# Altium footprint library tfp401a.PcbLib: 3 footprints
Each footprint in its own frame and in the unit in brackets; x right, y up, seen from the top. Pads: shape width x height; smd on the part's side, far side on the other; paste and mask are expansions set on the pad; w line width, h text height; cw(c..) or ccw(c..) is an arc to the next point about the centre after c.
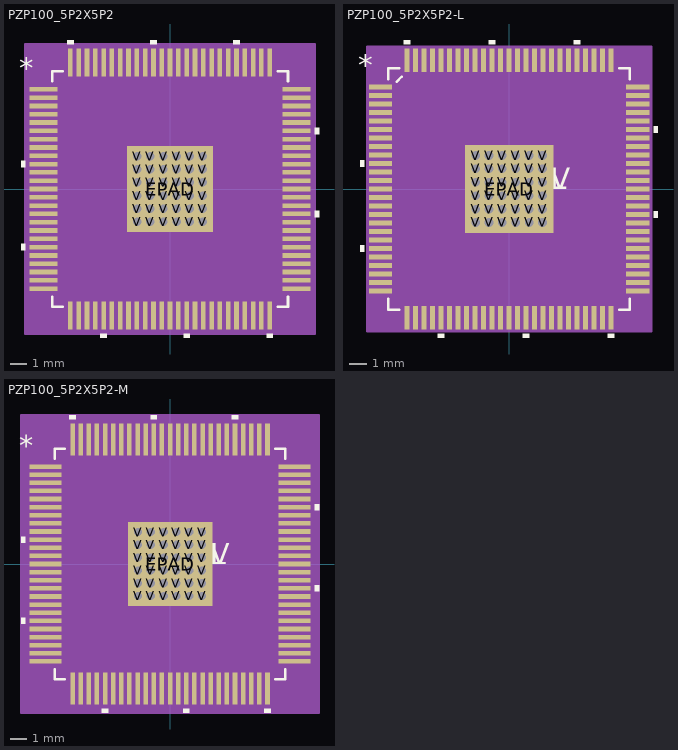
[diagram p0: the footprints below, top view; thin cyan lines are the x and y axes]

## PZP100_5P2X5P2 [mil]
pads (137):
  rect 66x11 smd: 1(-300,236.22) 2(-300,216.54) 3(-300,196.85) 4(-300,177.17) 5(-300,157.48) 6(-300,137.8) 7(-300,118.11) 8(-300,98.43) 9(-300,78.74) 10(-300,59.06) 11(-300,39.37) 12(-300,19.69) 13(-300,0) 14(-300,-19.68) 15(-300,-39.37) 16(-300,-59.06) 17(-300,-78.74) 18(-300,-98.43) 19(-300,-118.11) 20(-300,-137.8) 21(-300,-157.48) 22(-300,-177.17) 23(-300,-196.85) 24(-300,-216.54) 25(-300,-236.22) 51(300,-236.22) 52(300,-216.54) 53(300,-196.85) 54(300,-177.17) 55(300,-157.48) 56(300,-137.8) 57(300,-118.11) 58(300,-98.43) 59(300,-78.74) 60(300,-59.06) 61(300,-39.37) 62(300,-19.68) 63(300,0) 64(300,19.68) 65(300,39.37) 66(300,59.06) 67(300,78.74) 68(300,98.43) 69(300,118.11) 70(300,137.8) 71(300,157.48) 72(300,177.17) 73(300,196.85) 74(300,216.54) 75(300,236.22)
  rect 11x66 smd: 26(-236.22,-300) 27(-216.54,-300) 28(-196.85,-300) 29(-177.17,-300) 30(-157.48,-300) 31(-137.8,-300) 32(-118.11,-300) 33(-98.43,-300) 34(-78.74,-300) 35(-59.06,-300) 36(-39.37,-300) 37(-19.68,-300) 38(0,-300) 39(19.68,-300) 40(39.37,-300) 41(59.06,-300) 42(78.74,-300) 43(98.43,-300) 44(118.11,-300) 45(137.8,-300) 46(157.48,-300) 47(177.17,-300) 48(196.85,-300) 49(216.54,-300) 50(236.22,-300) 76(236.22,300) 77(216.54,300) 78(196.85,300) 79(177.17,300) 80(157.48,300) 81(137.8,300) 82(118.11,300) 83(98.43,300) 84(78.74,300) 85(59.06,300) 86(39.37,300) 87(19.68,300) 88(0,300) 89(-19.68,300) 90(-39.37,300) 91(-59.06,300) 92(-78.74,300) 93(-98.43,300) 94(-118.11,300) 95(-137.8,300) 96(-157.48,300) 97(-177.17,300) 98(-196.85,300) 99(-216.54,300) 100(-236.22,300)
  rect 204.72x204.72 smd paste-101.86 mask-102: EPAD(0,0)
  round 40 / inner round 60 / far side round 40 hole 20: V(-77.5,-77.5) V(-77.5,-46.5) V(-77.5,-15.5) V(-77.5,15.5) V(-77.5,46.5) V(-77.5,77.5) V(-46.5,-77.5) V(-46.5,-46.5) V(-46.5,-15.5) V(-46.5,15.5) V(-46.5,46.5) V(-46.5,77.5) V(-15.5,-77.5) V(-15.5,-46.5) V(-15.5,-15.5) V(-15.5,15.5) V(-15.5,46.5) V(-15.5,77.5) V(15.5,-77.5) V(15.5,-46.5) V(15.5,-15.5) V(15.5,15.5) V(15.5,46.5) V(15.5,77.5) V(46.5,-77.5) V(46.5,-46.5) V(46.5,-15.5) V(46.5,15.5) V(46.5,46.5) V(46.5,77.5) V(77.5,-77.5) V(77.5,-46.5) V(77.5,-15.5) V(77.5,15.5) V(77.5,46.5) V(77.5,77.5)
Top Overlay:
  region: -228.72,343 -243.72,343 -243.72,353 -228.72,353
  region: -31.87,343 -46.87,343 -46.87,353 -31.87,353
  region: 164.98,343 149.98,343 149.98,353 164.98,353
  region: 343,145.3 353,145.3 353,130.3 343,130.3
  region: 343,-51.56 353,-51.56 353,-66.56 343,-66.56
  region: 243.72,-343 228.72,-343 228.72,-353 243.72,-353
  region: 46.87,-343 31.87,-343 31.87,-353 46.87,-353
  region: -149.98,-343 -164.98,-343 -164.98,-353 -149.98,-353
  region: -343,-130.3 -353,-130.3 -353,-145.3 -343,-145.3
  region: -343,66.56 -353,66.56 -353,51.56 -343,51.56
  lines w6: -279.5,-254.82 -279.5,-279.5 -254.82,-279.5 ; -279.5,254.82 -279.5,279.5 -254.82,279.5 ; 254.82,-279.5 279.5,-279.5 279.5,-254.82 ; 254.82,279.5 279.5,279.5 279.5,254.82
  text "PN" at 0,0 h50
  text "*" at -358,261.06 h50
Top Paste:
  drawing of 49 lines, arcs and shapes, not listed
Top Solder:
  region: 85.37,-104.86 85.37,104.86 104.86,104.86 104.86,-104.86
  region: 69.63,-104.86 69.63,104.86 54.37,104.86 54.37,-104.86
  region: 38.63,-104.86 38.63,104.86 23.37,104.86 23.37,-104.86
  region: 7.63,-104.86 7.63,104.86 -7.63,104.86 -7.63,-104.86
  region: -23.37,-104.86 -23.37,104.86 -38.63,104.86 -38.63,-104.86
  region: -54.37,-104.86 -54.37,104.86 -69.63,104.86 -69.63,-104.86
  region: -104.86,-104.86 -104.86,104.86 -85.37,104.86 -85.37,-104.86
  region: -104.86,-104.86 -104.86,-85.37 104.86,-85.37 104.86,-104.86
  region: -104.86,-69.63 -104.86,-54.37 104.86,-54.37 104.86,-69.63
  region: -104.86,-38.63 -104.86,-23.37 104.86,-23.37 104.86,-38.63
  region: -104.86,-7.63 -104.86,7.63 104.86,7.63 104.86,-7.63
  region: -104.86,23.37 -104.86,38.63 104.86,38.63 104.86,23.37
  region: -104.86,54.37 -104.86,69.63 104.86,69.63 104.86,54.37
  region: -104.86,85.37 -104.86,104.86 104.86,104.86 104.86,85.37
Mechanical 13:
  text "*" at -358,261.06 h50
Mechanical 15:
  region: 343,-343 -343,-343 -343,343 343,343
  lines w6: -343,-343 343,-343 343,343 -343,343 -343,-343
3D body "PZP100_5P2X5P2.stp": height 47.1, standoff 0, extent -319,-319 319,319

## PZP100_5P2X5P2-L [mil]
pads (137):
  rect 54x11 smd: 1(-298,236.22) 2(-298,216.54) 3(-298,196.85) 4(-298,177.17) 5(-298,157.48) 6(-298,137.8) 7(-298,118.11) 8(-298,98.43) 9(-298,78.74) 10(-298,59.06) 11(-298,39.37) 12(-298,19.69) 13(-298,0) 14(-298,-19.68) 15(-298,-39.37) 16(-298,-59.06) 17(-298,-78.74) 18(-298,-98.43) 19(-298,-118.11) 20(-298,-137.8) 21(-298,-157.48) 22(-298,-177.17) 23(-298,-196.85) 24(-298,-216.54) 25(-298,-236.22) 51(298,-236.22) 52(298,-216.54) 53(298,-196.85) 54(298,-177.17) 55(298,-157.48) 56(298,-137.8) 57(298,-118.11) 58(298,-98.43) 59(298,-78.74) 60(298,-59.06) 61(298,-39.37) 62(298,-19.68) 63(298,0) 64(298,19.68) 65(298,39.37) 66(298,59.06) 67(298,78.74) 68(298,98.43) 69(298,118.11) 70(298,137.8) 71(298,157.48) 72(298,177.17) 73(298,196.85) 74(298,216.54) 75(298,236.22)
  rect 11x54 smd: 26(-236.22,-298) 27(-216.54,-298) 28(-196.85,-298) 29(-177.17,-298) 30(-157.48,-298) 31(-137.8,-298) 32(-118.11,-298) 33(-98.43,-298) 34(-78.74,-298) 35(-59.06,-298) 36(-39.37,-298) 37(-19.68,-298) 38(0,-298) 39(19.68,-298) 40(39.37,-298) 41(59.06,-298) 42(78.74,-298) 43(98.43,-298) 44(118.11,-298) 45(137.8,-298) 46(157.48,-298) 47(177.17,-298) 48(196.85,-298) 49(216.54,-298) 50(236.22,-298) 76(236.22,298) 77(216.54,298) 78(196.85,298) 79(177.17,298) 80(157.48,298) 81(137.8,298) 82(118.11,298) 83(98.43,298) 84(78.74,298) 85(59.06,298) 86(39.37,298) 87(19.68,298) 88(0,298) 89(-19.68,298) 90(-39.37,298) 91(-59.06,298) 92(-78.74,298) 93(-98.43,298) 94(-118.11,298) 95(-137.8,298) 96(-157.48,298) 97(-177.17,298) 98(-196.85,298) 99(-216.54,298) 100(-236.22,298)
  rect 204.72x204.72 smd paste-101.86 mask-102: EPAD(0,0)
  round 40 / inner round 60 / far side round 40 hole 20: V(-77.5,-77.5) V(-77.5,-46.5) V(-77.5,-15.5) V(-77.5,15.5) V(-77.5,46.5) V(-77.5,77.5) V(-46.5,-77.5) V(-46.5,-46.5) V(-46.5,-15.5) V(-46.5,15.5) V(-46.5,46.5) V(-46.5,77.5) V(-15.5,-77.5) V(-15.5,-46.5) V(-15.5,-15.5) V(-15.5,15.5) V(-15.5,46.5) V(-15.5,77.5) V(15.5,-77.5) V(15.5,-46.5) V(15.5,-15.5) V(15.5,15.5) V(15.5,46.5) V(15.5,77.5) V(46.5,-77.5) V(46.5,-46.5) V(46.5,-15.5) V(46.5,15.5) V(46.5,46.5) V(46.5,77.5) V(77.5,-77.5) V(77.5,-46.5) V(77.5,-15.5) V(77.5,15.5) V(77.5,46.5) V(77.5,77.5)
Top Overlay:
  region: -335,66.56 -345,66.56 -345,51.56 -335,51.56
  region: -335,-130.3 -345,-130.3 -345,-145.3 -335,-145.3
  region: -149.98,-335 -164.98,-335 -164.98,-345 -149.98,-345
  region: 46.87,-335 31.87,-335 31.87,-345 46.87,-345
  region: 243.72,-335 228.72,-335 228.72,-345 243.72,-345
  region: 335,-51.56 345,-51.56 345,-66.56 335,-66.56
  region: 335,145.3 345,145.3 345,130.3 335,130.3
  region: 164.98,335 149.98,335 149.98,345 164.98,345
  region: -31.87,335 -46.87,335 -46.87,345 -31.87,345
  region: -228.72,335 -243.72,335 -243.72,345 -228.72,345
  lines w6: -279.5,-254.82 -279.5,-279.5 -254.82,-279.5 ; -279.5,254.82 -279.5,279.5 -254.82,279.5 ; -260.07,248.93 -248.93,260.07 ; 254.82,-279.5 279.5,-279.5 279.5,-254.82 ; 254.82,279.5 279.5,279.5 279.5,254.82
  text "*" at -350,261.06 h50
  text "PN" at 0,0 h50
  text "DEV" at 0,0 h50
  text "VAL" at 0,0 h50
  text "TOL" at 0,0 h50
Top Paste:
  drawing of 49 lines, arcs and shapes, not listed
Top Solder:
  region: -104.86,85.37 -104.86,104.86 104.86,104.86 104.86,85.37
  region: -104.86,54.37 -104.86,69.63 104.86,69.63 104.86,54.37
  region: -104.86,23.37 -104.86,38.63 104.86,38.63 104.86,23.37
  region: -104.86,-7.63 -104.86,7.63 104.86,7.63 104.86,-7.63
  region: -104.86,-38.63 -104.86,-23.37 104.86,-23.37 104.86,-38.63
  region: -104.86,-69.63 -104.86,-54.37 104.86,-54.37 104.86,-69.63
  region: -104.86,-104.86 -104.86,-85.37 104.86,-85.37 104.86,-104.86
  region: -104.86,-104.86 -104.86,104.86 -85.37,104.86 -85.37,-104.86
  region: -54.37,-104.86 -54.37,104.86 -69.63,104.86 -69.63,-104.86
  region: -23.37,-104.86 -23.37,104.86 -38.63,104.86 -38.63,-104.86
  region: 7.63,-104.86 7.63,104.86 -7.63,104.86 -7.63,-104.86
  region: 38.63,-104.86 38.63,104.86 23.37,104.86 23.37,-104.86
  region: 69.63,-104.86 69.63,104.86 54.37,104.86 54.37,-104.86
  region: 85.37,-104.86 85.37,104.86 104.86,104.86 104.86,-104.86
Mechanical 13:
  text "*" at -350,261.06 h50
  text "RefDes2" at 0,0 h50
Mechanical 15:
  region: 329,-329 -329,-329 -329,329 329,329
  lines w6: -329,-329 -329,329 329,329 329,-329 -329,-329
3D body "PZP100_5P2X5P2-L.stp": height 47.1, standoff 0, extent -319,-319 319,319

## PZP100_5P2X5P2-M [mil]
pads (137):
  rect 78x11 smd: 1(-302,236.22) 2(-302,216.54) 3(-302,196.85) 4(-302,177.17) 5(-302,157.48) 6(-302,137.8) 7(-302,118.11) 8(-302,98.43) 9(-302,78.74) 10(-302,59.06) 11(-302,39.37) 12(-302,19.69) 13(-302,0) 14(-302,-19.68) 15(-302,-39.37) 16(-302,-59.06) 17(-302,-78.74) 18(-302,-98.43) 19(-302,-118.11) 20(-302,-137.8) 21(-302,-157.48) 22(-302,-177.17) 23(-302,-196.85) 24(-302,-216.54) 25(-302,-236.22) 51(302,-236.22) 52(302,-216.54) 53(302,-196.85) 54(302,-177.17) 55(302,-157.48) 56(302,-137.8) 57(302,-118.11) 58(302,-98.43) 59(302,-78.74) 60(302,-59.06) 61(302,-39.37) 62(302,-19.68) 63(302,0) 64(302,19.68) 65(302,39.37) 66(302,59.06) 67(302,78.74) 68(302,98.43) 69(302,118.11) 70(302,137.8) 71(302,157.48) 72(302,177.17) 73(302,196.85) 74(302,216.54) 75(302,236.22)
  rect 11x78 smd: 26(-236.22,-302) 27(-216.54,-302) 28(-196.85,-302) 29(-177.17,-302) 30(-157.48,-302) 31(-137.8,-302) 32(-118.11,-302) 33(-98.43,-302) 34(-78.74,-302) 35(-59.06,-302) 36(-39.37,-302) 37(-19.68,-302) 38(0,-302) 39(19.68,-302) 40(39.37,-302) 41(59.06,-302) 42(78.74,-302) 43(98.43,-302) 44(118.11,-302) 45(137.8,-302) 46(157.48,-302) 47(177.17,-302) 48(196.85,-302) 49(216.54,-302) 50(236.22,-302) 76(236.22,302) 77(216.54,302) 78(196.85,302) 79(177.17,302) 80(157.48,302) 81(137.8,302) 82(118.11,302) 83(98.43,302) 84(78.74,302) 85(59.06,302) 86(39.37,302) 87(19.68,302) 88(0,302) 89(-19.68,302) 90(-39.37,302) 91(-59.06,302) 92(-78.74,302) 93(-98.43,302) 94(-118.11,302) 95(-137.8,302) 96(-157.48,302) 97(-177.17,302) 98(-196.85,302) 99(-216.54,302) 100(-236.22,302)
  rect 204.72x204.72 smd paste-101.86 mask-102: EPAD(0,0)
  round 40 / inner round 60 / far side round 40 hole 20: V(-77.5,-77.5) V(-77.5,-46.5) V(-77.5,-15.5) V(-77.5,15.5) V(-77.5,46.5) V(-77.5,77.5) V(-46.5,-77.5) V(-46.5,-46.5) V(-46.5,-15.5) V(-46.5,15.5) V(-46.5,46.5) V(-46.5,77.5) V(-15.5,-77.5) V(-15.5,-46.5) V(-15.5,-15.5) V(-15.5,15.5) V(-15.5,46.5) V(-15.5,77.5) V(15.5,-77.5) V(15.5,-46.5) V(15.5,-15.5) V(15.5,15.5) V(15.5,46.5) V(15.5,77.5) V(46.5,-77.5) V(46.5,-46.5) V(46.5,-15.5) V(46.5,15.5) V(46.5,46.5) V(46.5,77.5) V(77.5,-77.5) V(77.5,-46.5) V(77.5,-15.5) V(77.5,15.5) V(77.5,46.5) V(77.5,77.5)
Top Overlay:
  region: -351,66.56 -361,66.56 -361,51.56 -351,51.56
  region: -351,-130.3 -361,-130.3 -361,-145.3 -351,-145.3
  region: -149.98,-351 -164.98,-351 -164.98,-361 -149.98,-361
  region: 46.87,-351 31.87,-351 31.87,-361 46.87,-361
  region: 243.72,-351 228.72,-351 228.72,-361 243.72,-361
  region: 351,-51.56 361,-51.56 361,-66.56 351,-66.56
  region: 351,145.3 361,145.3 361,130.3 351,130.3
  region: 164.98,351 149.98,351 149.98,361 164.98,361
  region: -31.87,351 -46.87,351 -46.87,361 -31.87,361
  region: -228.72,351 -243.72,351 -243.72,361 -228.72,361
  lines w6: -279.5,-254.82 -279.5,-279.5 -254.82,-279.5 ; -279.5,254.82 -279.5,279.5 -254.82,279.5 ; 254.82,-279.5 279.5,-279.5 279.5,-254.82 ; 254.82,279.5 279.5,279.5 279.5,254.82
  text "*" at -366,261.06 h50
  text "PN" at 0,0 h50
  text "DEV" at 0,0 h50
  text "VAL" at 0,0 h50
  text "TOL" at 0,0 h50
Top Paste:
  drawing of 49 lines, arcs and shapes, not listed
Top Solder:
  region: -104.86,85.37 -104.86,104.86 104.86,104.86 104.86,85.37
  region: -104.86,54.37 -104.86,69.63 104.86,69.63 104.86,54.37
  region: -104.86,23.37 -104.86,38.63 104.86,38.63 104.86,23.37
  region: -104.86,-7.63 -104.86,7.63 104.86,7.63 104.86,-7.63
  region: -104.86,-38.63 -104.86,-23.37 104.86,-23.37 104.86,-38.63
  region: -104.86,-69.63 -104.86,-54.37 104.86,-54.37 104.86,-69.63
  region: -104.86,-104.86 -104.86,-85.37 104.86,-85.37 104.86,-104.86
  region: -104.86,-104.86 -104.86,104.86 -85.37,104.86 -85.37,-104.86
  region: -54.37,-104.86 -54.37,104.86 -69.63,104.86 -69.63,-104.86
  region: -23.37,-104.86 -23.37,104.86 -38.63,104.86 -38.63,-104.86
  region: 7.63,-104.86 7.63,104.86 -7.63,104.86 -7.63,-104.86
  region: 38.63,-104.86 38.63,104.86 23.37,104.86 23.37,-104.86
  region: 69.63,-104.86 69.63,104.86 54.37,104.86 54.37,-104.86
  region: 85.37,-104.86 85.37,104.86 104.86,104.86 104.86,-104.86
Mechanical 13:
  text "*" at -366,261.06 h50
  text "RefDes2" at 0,0 h50
Mechanical 15:
  region: 361,-361 -361,-361 -361,361 361,361
  lines w6: -361,-361 -361,361 361,361 361,-361 -361,-361
3D body "PZP100_5P2X5P2-M.stp": height 47.1, standoff 0, extent -319,-319 319,319